# Altium footprint library Stove_Light.PcbLib: 127 footprints (part 3 of 8)
Each footprint in its own frame and in the unit in brackets; x right, y up, seen from the top. Pads: shape width x height; smd on the part's side, far side on the other; paste and mask are expansions set on the pad; w line width, h text height; cw(c..) or ccw(c..) is an arc to the next point about the centre after c.
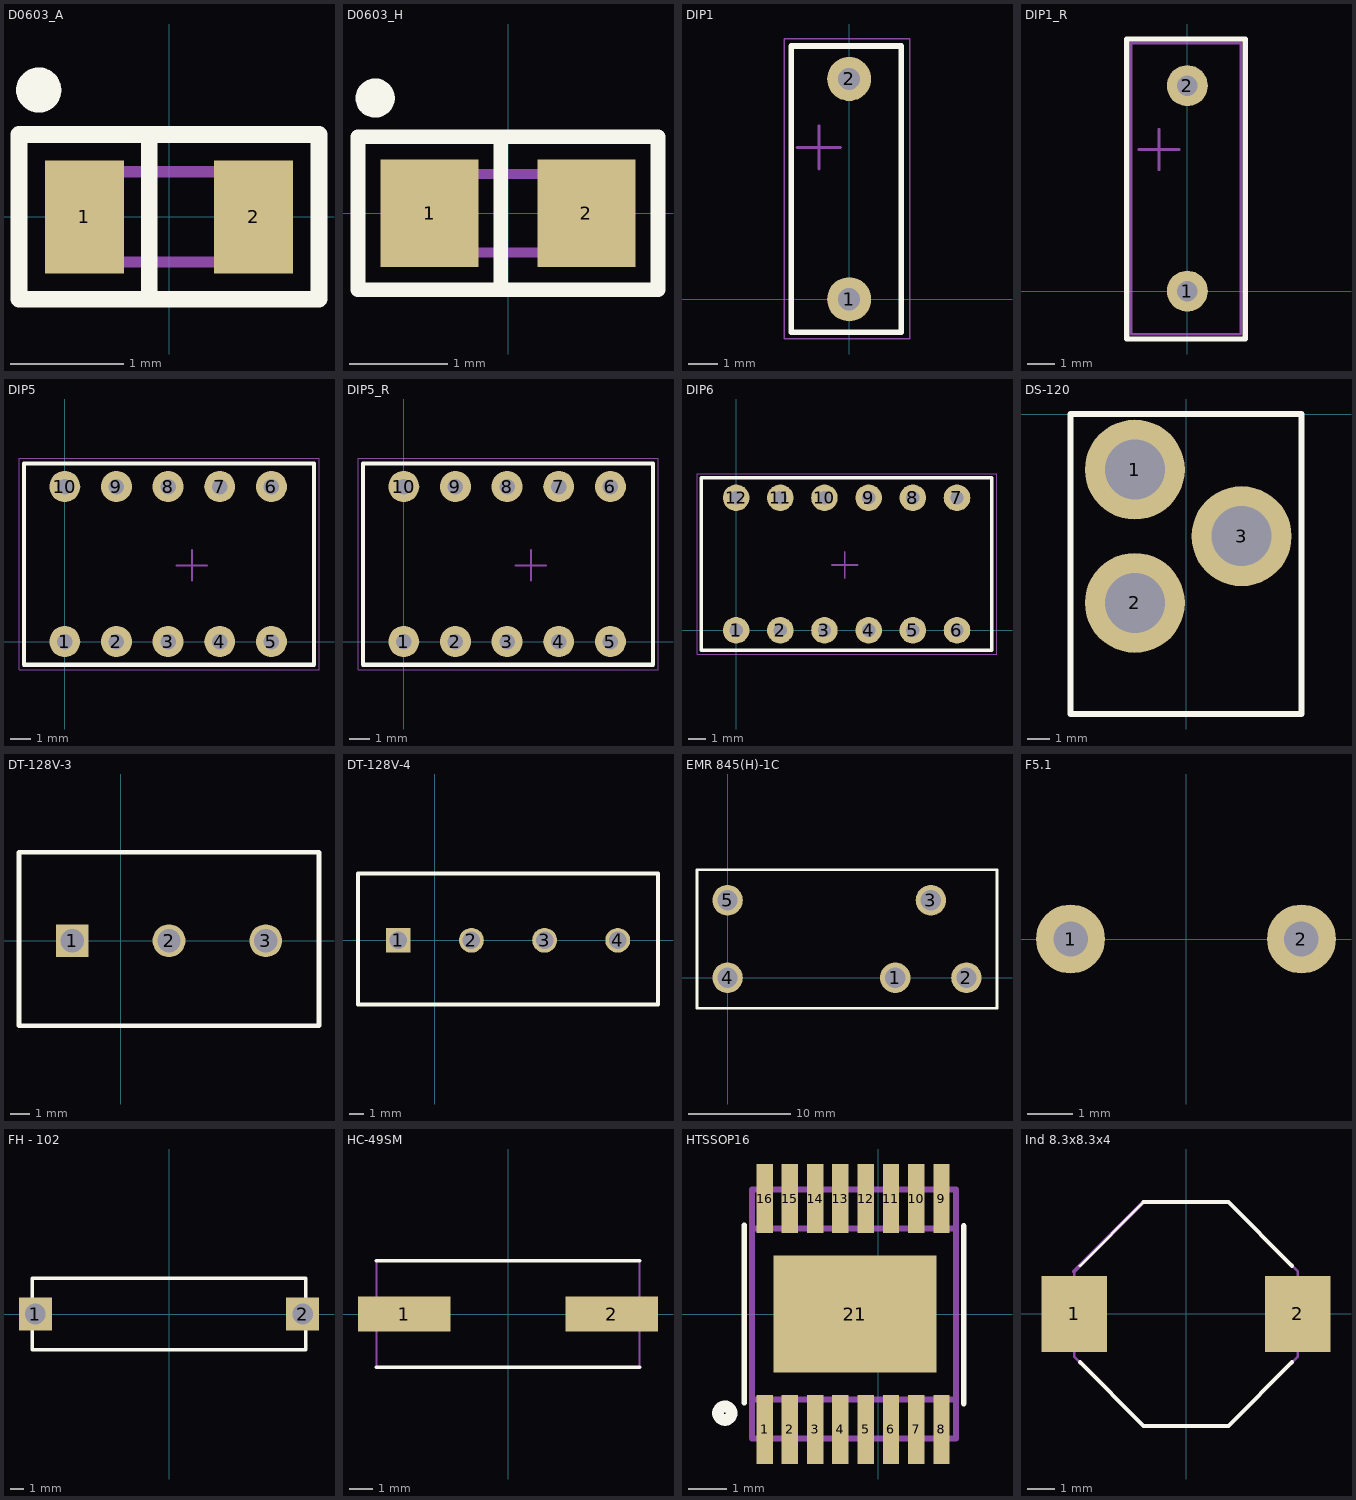
[diagram p2: the footprints below, top view; thin cyan lines are the x and y axes]

## D0603_A [mm]
height 1.1
pads (2):
  rect 0.7x1 smd: 1(-0.75,0) 2(0.75,0)
Top Overlay:
  circle w0.2: c-1.155,1.125 r0.1
  lines w0.15: -0.175,-0.73 -0.175,0.73 ; -1.33,-0.73 1.33,-0.73 1.33,0.73 -1.33,0.73 -1.33,-0.73
Mechanical 9:
  text ".Designator" at -0.62,1 h0.8
  text ".Comment" at -0.75,-1.28 h0.6
Mechanical 11:
  lines w0.1: -0.7,-0.4 -0.7,0.4 ; -0.6,-0.4 -0.6,0.4 ; -0.5,-0.4 -0.5,0.4 ; -0.8,-0.4 -0.8,0.4 0.8,0.4 0.8,-0.4 -0.8,-0.4
3D body: height 1.1, standoff 0, extent -0.8,-0.4 0.8,0.4

## D0603_H [mm]
height 1.1
pads (2):
  rect 1x1.1 smd: 1(-0.8,0) 2(0.8,0)
Top Overlay:
  circle w0.2: c-1.355,1.175 r0.1
  lines w0.15: -0.075,-0.78 -0.075,0.78 ; -1.53,-0.78 1.53,-0.78 1.53,0.78 -1.53,0.78 -1.53,-0.78
Mechanical 9:
  text ".Comment" at -0.61,-1.33 h0.6
  text ".Designator" at -0.62,1 h0.8
Mechanical 11:
  lines w0.1: -0.7,-0.4 -0.7,0.4 ; -0.6,-0.4 -0.6,0.4 ; -0.5,-0.4 -0.5,0.4 ; -0.8,-0.4 -0.8,0.4 0.8,0.4 0.8,-0.4 -0.8,-0.4
3D body: height 1.1, standoff 0, extent -0.8,-0.4 0.8,0.4

## DIP1 [mil]
pads (2):
  round 60 hole 30: 1(0,0) 2(0,300)
Top Overlay:
  lines w7.87: -78.74,-44.88 -78.74,344.88 70.87,344.88 70.87,-44.88 -78.74,-44.88
Mechanical 9:
  text ".Designator" at -66.93,212.6 h39.37
  text ".Comment" at -66.93,185.04 h31.5
Mechanical 11:
  lines w3.94: -78.74,-45.28 70.87,-45.28 70.87,344.49 -78.74,344.49 -78.74,-45.28
Mechanical 15:
  lines w1.97: -88.58,-54.13 -88.58,354.33 82.68,354.33 82.68,-54.13 -88.58,-54.13
  lines w3.94: -70.87,206.69 -11.81,206.69 ; -41.34,177.17 -41.34,236.22
3D body "Switch_DIP1.step": height 268.92, standoff -104.11, extent -79.73,-42.32 70.86,341.54

## DIP1_R [mil]
pads (2):
  round 60 hole 30: 1(0,0) 2(0,300)
Top Overlay:
  lines w7.87: -88.58,-69.88 -88.58,368.11 84.65,368.11 84.65,-69.88 -88.58,-69.88
Mechanical 9:
  text ".Designator" at -66.93,212.6 h39.37
  text ".Comment" at -66.93,185.04 h31.5
Mechanical 11:
  lines w3.94: -81.69,-62.99 77.76,-62.99 77.76,362.2 -81.69,362.2 -81.69,-62.99
Mechanical 15:
  lines w1.97: -82.68,-62.99 -82.68,362.2 78.74,362.2 78.74,-62.99 -82.68,-62.99
  lines w3.94: -70.87,206.69 -11.81,206.69 ; -41.34,177.17 -41.34,236.22
3D body: height 401.57, standoff -125.98, extent -82.28,-133.86 78.74,362.21

## DIP5 [mil]
pads (10):
  round 60 hole 30: 1(0,0) 2(100,0) 3(200,0) 4(300,0) 5(400,0) 6(400,300) 7(300,300) 8(200,300) 9(100,300) 10(0,300)
Top Overlay:
  lines w7.87: -78.74,-44.88 -78.74,344.88 482.28,344.88 482.28,-44.88 -78.74,-44.88
Mechanical 9:
  text ".Designator" at 206.69,157.48 h39.37
  text ".Comment" at 206.69,127.95 h31.5
Mechanical 11:
  lines w3.94: -78.74,-45.28 482.28,-45.28 482.28,344.49 -78.74,344.49 -78.74,-45.28
Mechanical 15:
  lines w1.97: -88.58,-54.13 -88.58,354.33 492.13,354.33 492.13,-54.13 -88.58,-54.13
  lines w3.94: 216.54,147.64 275.59,147.64 ; 246.06,118.11 246.06,177.17
3D body "Switch_DIP5.step": height 238.23, standoff -124.02, extent -78.74,-47.24 482.67,342.52

## DIP5_R [mil]
pads (10):
  round 60 hole 30: 1(0,0) 2(100,0) 3(200,0) 4(300,0) 5(400,0) 6(400,300) 7(300,300) 8(200,300) 9(100,300) 10(0,300)
Top Overlay:
  lines w7.87: -78.74,-44.88 482.28,-44.88 482.28,344.88 -78.74,344.88 -78.74,-44.88
Mechanical 9:
  text ".Comment" at 206.69,127.95 h31.5
  text ".Designator" at 206.69,157.48 h39.37
Mechanical 11:
  lines w3.94: -78.74,-45.28 -78.74,344.49 482.28,344.49 482.28,-45.28 -78.74,-45.28
Mechanical 15:
  lines w1.97: -88.58,-54.13 492.13,-54.13 492.13,354.33 -88.58,354.33 -88.58,-54.13
  lines w3.94: 216.54,147.64 275.59,147.64 ; 246.06,118.11 246.06,177.17
3D body: height 403.54, standoff -124.02, extent -78.73,-135.82 482.68,360.24

## DIP6 [mil]
pads (12):
  round 60 hole 30: 1(0,0) 2(100,0) 3(200,0) 4(300,0) 5(400,0) 6(500,0) 7(500,300) 8(400,300) 9(300,300) 10(200,300) 11(100,300) 12(0,300)
Top Overlay:
  lines w7.87: -78.74,-44.88 578.74,-44.88 578.74,344.88 -78.74,344.88 -78.74,-44.88
Mechanical 9:
  text ".Comment" at 206.69,127.95 h31.5
  text ".Designator" at 206.69,157.48 h39.37
Mechanical 11:
  lines w3.94: -78.74,-45.28 -78.74,344.49 578.74,344.49 578.74,-45.28 -78.74,-45.28
Mechanical 15:
  lines w1.97: -88.58,-54.13 590.55,-54.13 590.55,354.33 -88.58,354.33 -88.58,-54.13
  lines w3.94: 216.54,147.64 275.59,147.64 ; 246.06,118.11 246.06,177.17
3D body "DIP 6 позиций.STEP": height 354.33, standoff -143.7, extent -76.74,-104.82 580.74,344

## DS-120 [mm]
pads (3):
  round 4.5 hole 2.7: 1(-2.3,-2.5) 2(-2.3,-8.5) 3(2.5,-5.5)
Top Overlay:
  lines w0.254: -5.2,-13.5 -5.2,0 5.2,0 5.2,-13.5 -5.2,-13.5

## DT-128V-3 [mm]
pads (3):
  rect 1.7x1.7 hole 1.2: 1(-2.5,0)
  round 1.7 hole 1.2: 2(2.5,0) 3(7.5,0)
Top Overlay:
  lines w0.254: -5.25,-4.394 10.25,-4.394 10.25,4.572 -5.25,4.572 -5.25,-4.394
3D body: height 15.2, standoff -3.5, extent -5.25,-4.394 10.25,4.606

## DT-128V-4 [mm]
pads (4):
  rect 1.7x1.7 hole 1.2: 1(-2.5,0)
  round 1.7 hole 1.2: 2(2.5,0) 3(7.5,0) 4(12.5,0)
Top Overlay:
  lines w0.254: -5.25,-4.394 15.25,-4.394 15.25,4.572 -5.25,4.572 -5.25,-4.394
3D body: height 15.2, standoff -3.5, extent -5.25,-4.394 15.25,4.606

## EMR 845(H)-1C [mm]
pads (5):
  round 3 hole 2: 1(16.5,0) 2(23.5,0) 3(20,7.6) 4(0,0) 5(0,7.6)
Top Overlay:
  lines w0.254: -3,-3 -3,10.5 -3,10.6 26.5,10.6 26.5,10.5 26.5,7.5 26.5,-3 -3,-3
3D body: height 19, standoff -3, extent -2.587,-2.311 26.413,10.389

## F5.1 [mil]
pads (2):
  round 60 hole 30: 1(-100.39,0) 2(100.39,0)
3D body "MF-R110.STEP": height 608.27, standoff -251.97, extent -185.31,-117.76 185.51,116.27

## FH - 102 [mm]
pads (2):
  rect 2.4x2.4 hole 1.5: 1(-9.75,0) 2(9.75,0)
Top Overlay:
  lines w0.254: -10,-2.6 10,-2.6 10,2.6 -10,2.6 -10,-2.6

## HC-49SM [mm] "Кварцевый резонатор поверхностного монтажа"
pads (2):
  rect 4x1.5 smd: 1(-4.5,0) 2(4.5,0)
Top Overlay:
  lines w0.15: -5.7,-2.3 5.7,-2.3 ; -5.7,2.3 5.7,2.3
Mechanical 7:
  lines w0.1: -5.7,-2.3 5.7,-2.3 5.7,2.3 -5.7,2.3 -5.7,-2.3
3D body: height 5, standoff 0, extent -5.5,-2 5.5,2
3D body: height 0.7, standoff 0, extent -5.7,-2.3 5.7,2.3

## HTSSOP16 [mm]
height 1.1
pads (17):
  rect 0.42x1.78 smd mask+0.075: 1(-2.925,-2.97) 2(-2.275,-2.97) 3(-1.625,-2.97) 4(-0.975,-2.97) 5(-0.325,-2.97) 6(0.325,-2.97) 7(0.975,-2.97) 8(1.625,-2.97) 9(1.625,2.97) 10(0.975,2.97) 11(0.325,2.97) 12(-0.325,2.97) 13(-0.975,2.97) 14(-1.625,2.97) 15(-2.275,2.97) 16(-2.925,2.97)
  rect 4.2x3 smd mask+0.075: 21(-0.6,0)
Top Overlay:
  circle w0.3: c-3.95,-2.552 r0.175
  lines w0.152: -3.45,-2.284 -3.45,2.284 ; 2.2,-2.3 2.2,2.269
Mechanical 7:
  lines w0.152: -3.25,-2.2 2,-2.2 ; -3.25,2.2 2,2.2 ; -3.25,-3.2 2,-3.2 2,3.2 -3.25,3.2 -3.25,-3.2
Mechanical 10:
  text ".Designator" at -1.85,-5.225 h1.52
  text ".Comment" at -1.7,4.45 h1.52
3D body: height 0.5, standoff 0.05, extent -3.25,-3.2 2,-2.2
3D body: height 0.5, standoff 0.05, extent -3.25,2.2 2,3.2
3D body: height 1.1, standoff 0.05, extent -3.25,-2.2 2,2.2

## Ind 8.3x8.3x4 [mm]
pads (2):
  rect 2.4x2.8 smd: 1(-4.1,0) 2(4.1,0)
Top Overlay:
  lines w0.1: -3.889,1.768 -1.556,4.101
  lines w0.15: -3.889,-1.768 -1.556,-4.101 1.556,-4.101 3.889,-1.768 ; -1.556,4.101 1.556,4.101 3.889,1.768
Mechanical 7:
  lines w0.1: -4.101,1.556 -4.101,-1.556 -1.556,-4.101 1.556,-4.101 4.101,-1.556 4.101,1.556 1.556,4.101 -1.556,4.101
  lines w0.15: -4.101,1.556 -1.556,4.101
Mechanical 10:
  text ".Designator" at -1.5,5.2 h0.8
  text ".Comment" at -1.2,-5.3 h0.6
3D body: height 4, standoff 0.15, extent -4.101,-4.101 4.101,4.101